# Altium footprint library Senior Design PCBLIB.PcbLib: 5 footprints
Each footprint in its own frame and in the unit in brackets; x right, y up, seen from the top. Pads: shape width x height; smd on the part's side, far side on the other; paste and mask are expansions set on the pad; w line width, h text height; cw(c..) or ccw(c..) is an arc to the next point about the centre after c.
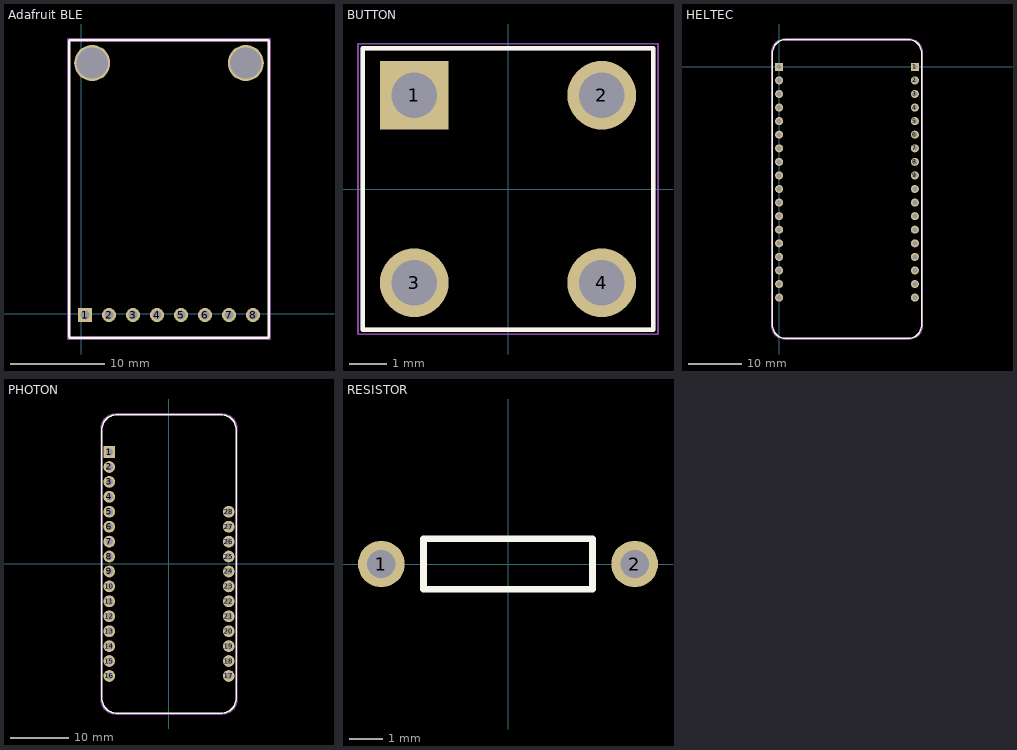
[diagram p0: the footprints below, top view; thin cyan lines are the x and y axes]

## Adafruit BLE [mm]
pads (10):
  rect 1.5x1.5 hole 0.9: 1(0.381,-0.127)
  round 1.5 hole 0.9: 2(2.921,-0.127) 3(5.461,-0.127) 4(8.001,-0.127) 5(10.541,-0.127) 6(13.081,-0.127) 7(15.621,-0.127) 8(18.161,-0.127)
  round 3.81 hole 3.302: ""(1.143,26.543) ""(17.399,26.543)
Top Overlay:
  lines w0.254: -1.27,-2.413 ccw(c-1.143,-2.413) -1.143,-2.54 19.685,-2.54 ccw(c19.685,-2.413) 19.812,-2.413 19.812,28.829 ccw(c19.685,28.829) 19.685,28.956 -1.143,28.956 ccw(c-1.143,28.829) -1.27,28.829 -1.27,-2.413
Mechanical 1:
  lines w0.254: -1.397,-2.667 -1.397,29.083 19.939,29.083 19.939,-2.667 -1.397,-2.667

## BUTTON [mm]
pads (4):
  rect 1.86x1.86 hole 1.24: 1(-2.54,2.54)
  round 1.86 hole 1.24: 2(2.54,2.54) 3(-2.54,-2.54) 4(2.54,-2.54)
Top Overlay:
  circle w0.2: c-2.54,-2.54 r0.1
  lines w0.127: -3.937,-3.81 -3.937,3.81 3.937,3.81 3.937,-3.81 -3.937,-3.81
Mechanical 13 (Mech13):
  circle w0.2: c-2.54,-2.54 r0.1
  lines w0.127: -3.937,-3.81 -3.937,3.81 3.937,3.81 3.937,-3.81 -3.937,-3.81
Mechanical 15:
  lines w0.05: -4.064,-3.937 -4.064,3.937 4.064,3.937 4.064,-3.937 -4.064,-3.937

## HELTEC [mm]
pads (36):
  rect 1.5x1.5 hole 0.9: 1(25.4,0) 36(0,0)
  round 1.5 hole 0.9: 2(25.4,-2.54) 3(25.4,-5.08) 4(25.4,-7.62) 5(25.4,-10.16) 6(25.4,-12.7) 7(25.4,-15.24) 8(25.4,-17.78) 9(25.4,-20.32) 10(25.4,-22.86) 11(25.4,-25.4) 12(25.4,-27.94) 13(25.4,-30.48) 14(25.4,-33.02) 15(25.4,-35.56) 16(25.4,-38.1) 17(25.4,-40.64) 18(25.4,-43.18) 19(0,-43.18) 20(0,-40.64) 21(0,-38.1) 22(0,-35.56) 23(0,-33.02) 24(0,-30.48) 25(0,-27.94) 26(0,-25.4) 27(0,-22.86) 28(0,-20.32) 29(0,-17.78) 30(0,-15.24) 31(0,-12.7) 32(0,-10.16) 33(0,-7.62) 34(0,-5.08) 35(0,-2.54)
Top Overlay:
  lines w0.254: -1.27,-48.26 ccw(c1.27,-48.26) 1.27,-50.8 24.13,-50.8 ccw(c24.13,-48.26) 26.67,-48.26 26.67,2.54 ccw(c24.13,2.54) 24.13,5.08 1.27,5.08 ccw(c1.27,2.54) -1.27,2.54 -1.27,-48.26
Mechanical 1:
  lines w0.254: -1.397,-48.387 ccw(c1.143,-48.387) 1.143,-50.927 24.257,-50.927 ccw(c24.257,-48.387) 26.797,-48.387 26.797,2.667 ccw(c24.257,2.667) 24.257,5.207 1.143,5.207 ccw(c1.143,2.667) -1.397,2.667 -1.397,-48.387

## PHOTON [mm]
pads (28):
  rect 2x2 hole 1.2: 1(-10.16,19.05)
  round 2 hole 1.2: 2(-10.16,16.51) 3(-10.16,13.97) 4(-10.16,11.43) 5(-10.16,8.89) 6(-10.16,6.35) 7(-10.16,3.81) 8(-10.16,1.27) 9(-10.16,-1.27) 10(-10.16,-3.81) 11(-10.16,-6.35) 12(-10.16,-8.89) 13(-10.16,-11.43) 14(-10.16,-13.97) 15(-10.16,-16.51) 16(-10.16,-19.05) 17(10.16,-19.05) 18(10.16,-16.51) 19(10.16,-13.97) 20(10.16,-11.43) 21(10.16,-8.89) 22(10.16,-6.35) 23(10.16,-3.81) 24(10.16,-1.27) 25(10.16,1.27) 26(10.16,3.81) 27(10.16,6.35) 28(10.16,8.89)
Top Overlay:
  lines w0.254: -11.43,-22.86 ccw(c-8.89,-22.86) -8.89,-25.4 8.89,-25.4 ccw(c8.89,-22.86) 11.43,-22.86 11.43,22.86 ccw(c8.89,22.86) 8.89,25.4 -8.89,25.4 ccw(c-8.89,22.86) -11.43,22.86 -11.43,-22.86
Mechanical 1:
  lines w0.254: -11.557,-22.987 ccw(c-9.017,-22.987) -9.017,-25.527 9.017,-25.527 ccw(c9.017,-22.987) 11.557,-22.987 11.557,22.987 ccw(c9.017,22.987) 9.017,25.527 -9.017,25.527 ccw(c-9.017,22.987) -11.557,22.987 -11.557,-22.987
3D body "Photon 2.step": height 7.33, standoff -9.34, extent -11.43,-25.401 11.43,26.999

## RESISTOR [mm]
pads (2):
  round 1.4 hole 0.85: 1(-3.81,0) 2(3.81,0)
Top Overlay:
  lines w0.2: -2.54,-0.762 -2.54,0.762 2.54,0.762 2.54,0 2.54,-0.762 -2.54,-0.762